# Altium schematic symbol library baikal_t1.schlib: 1 symbol
Pins are listed as number, name and electrical type; pins without a type are passive.

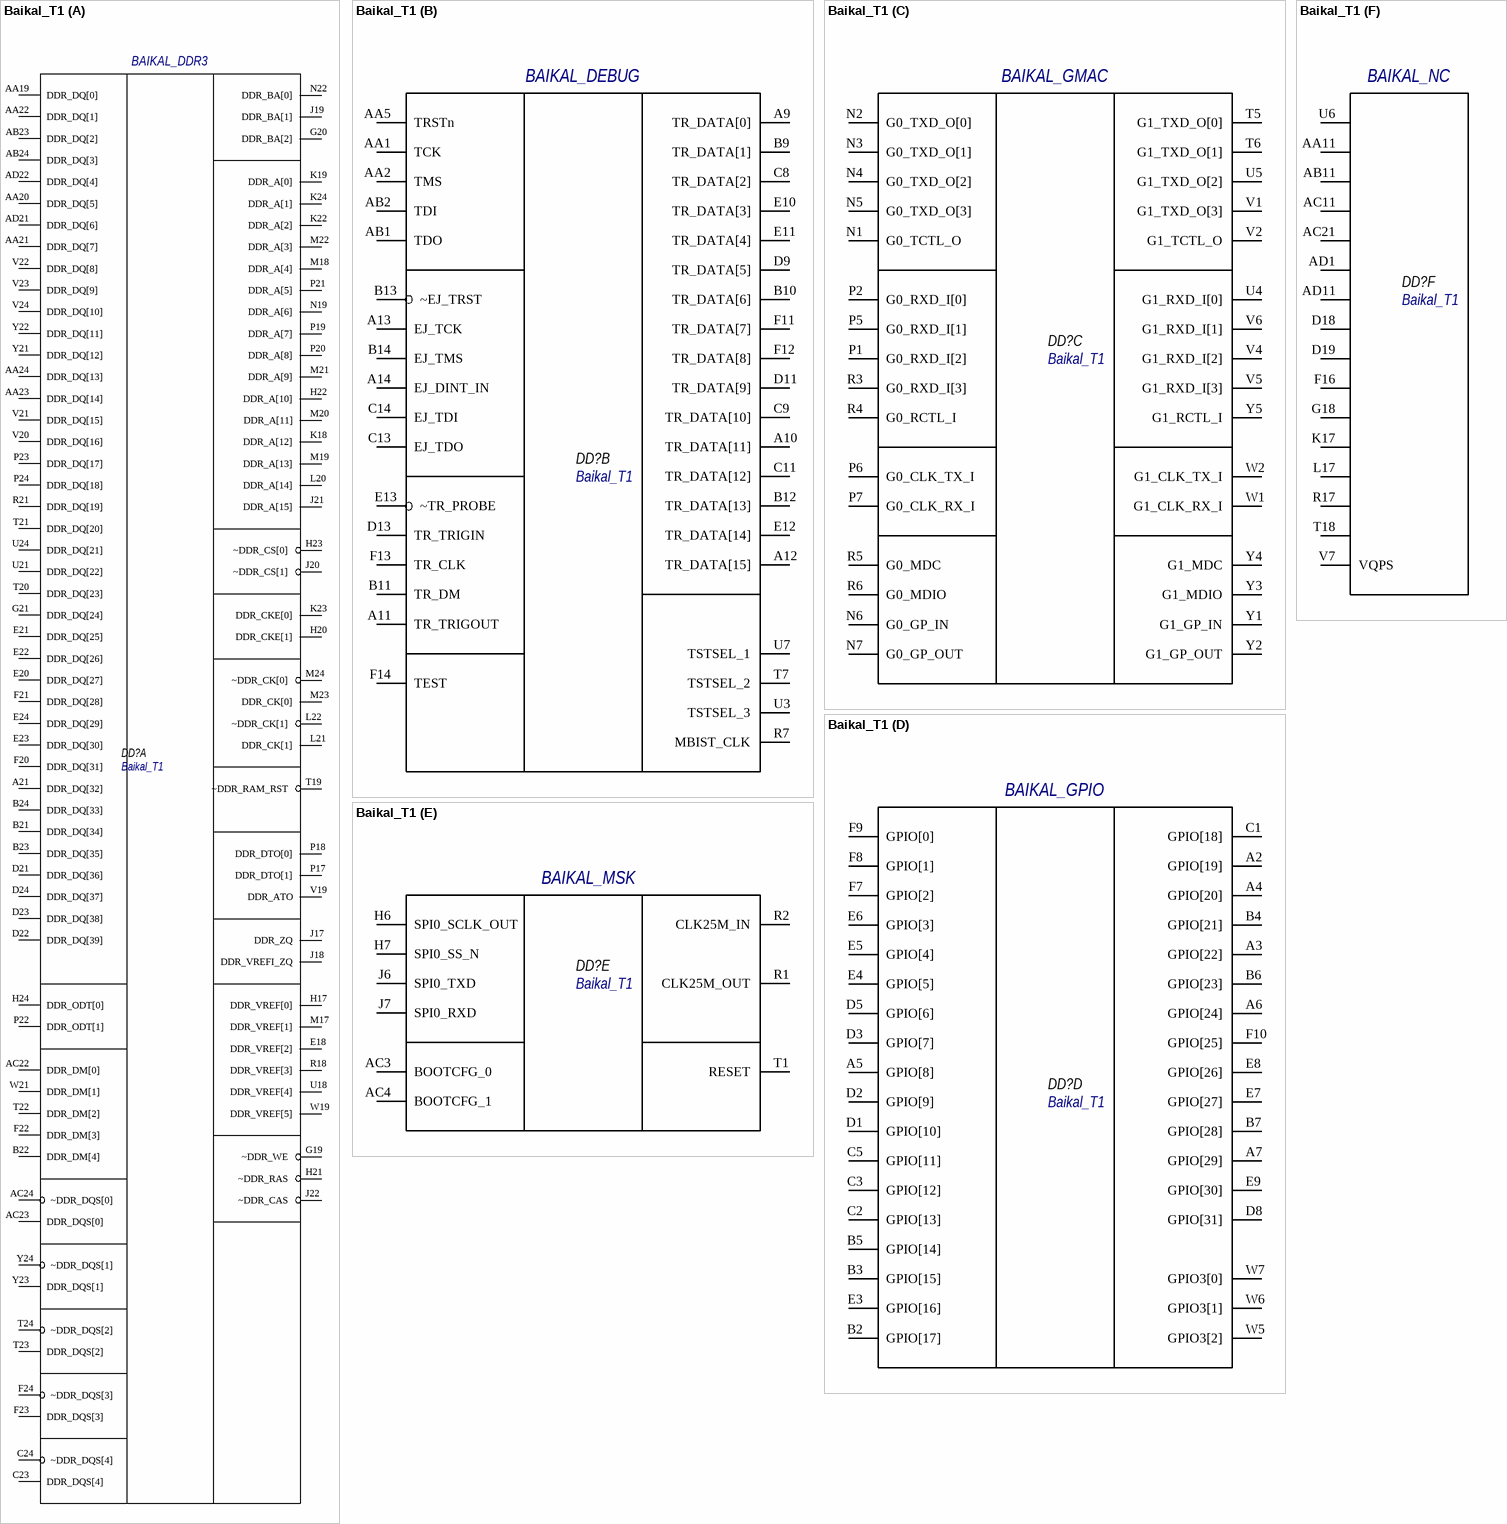
[diagram p0: symbol Baikal_T1]

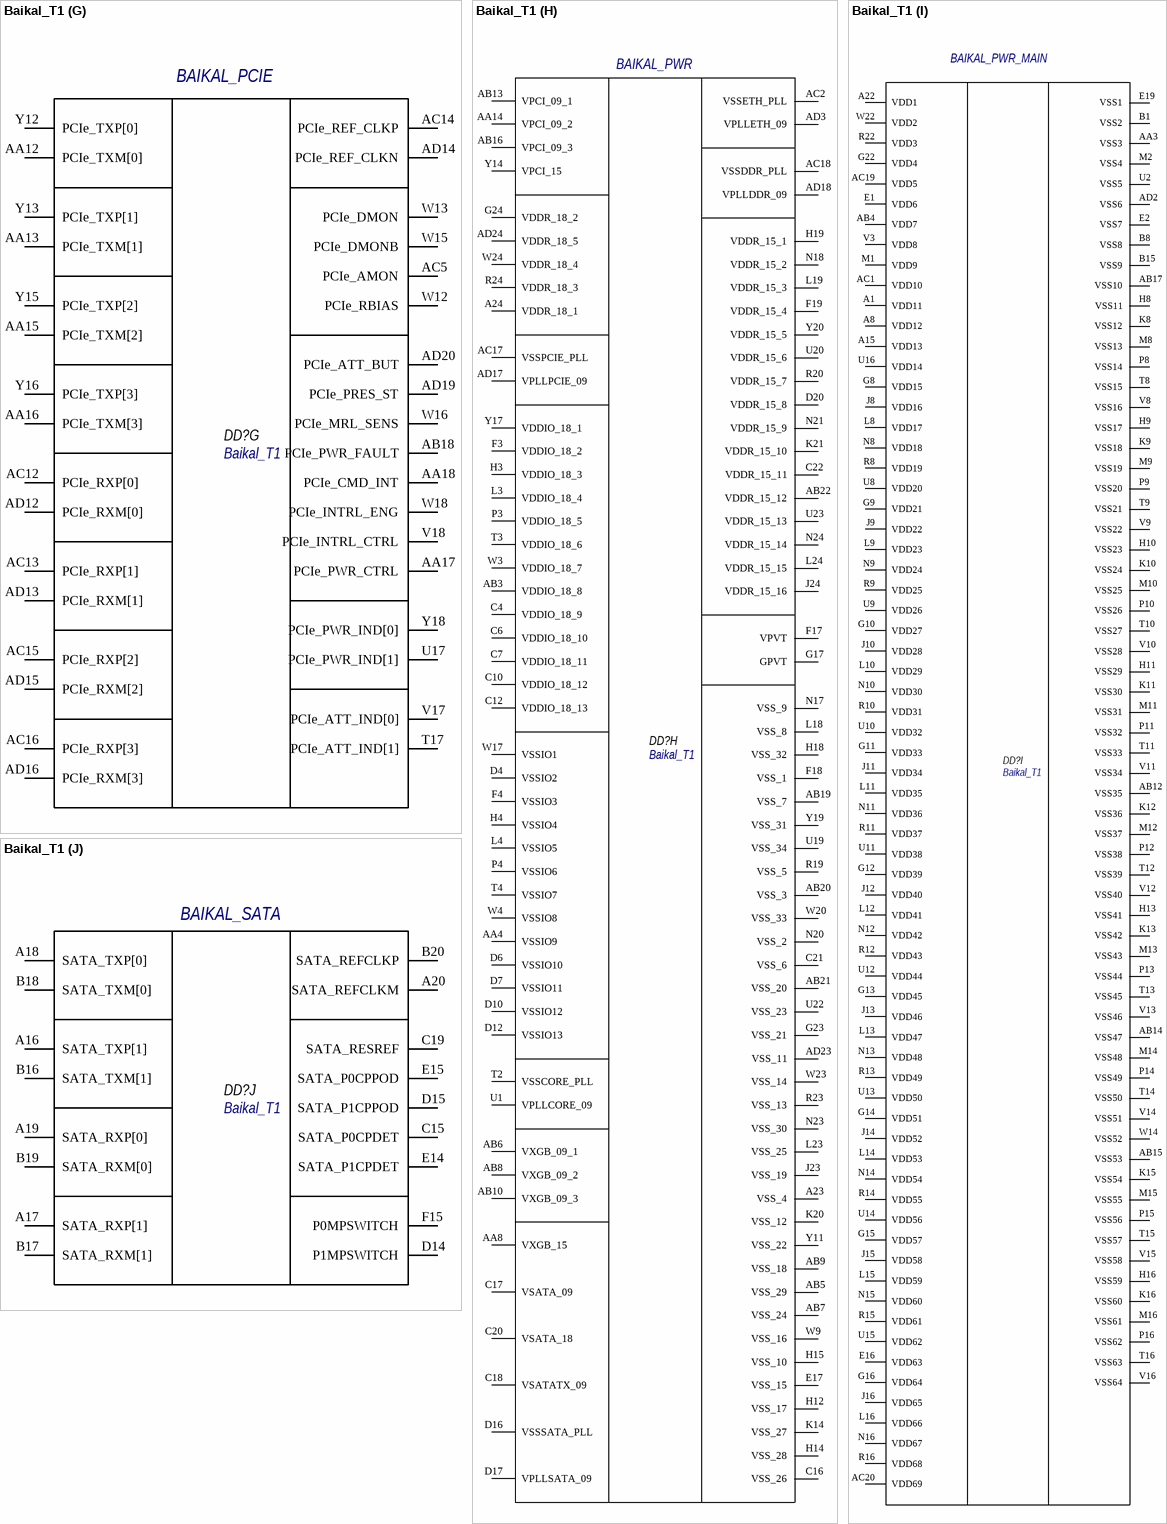
[diagram p1: symbol Baikal_T1]

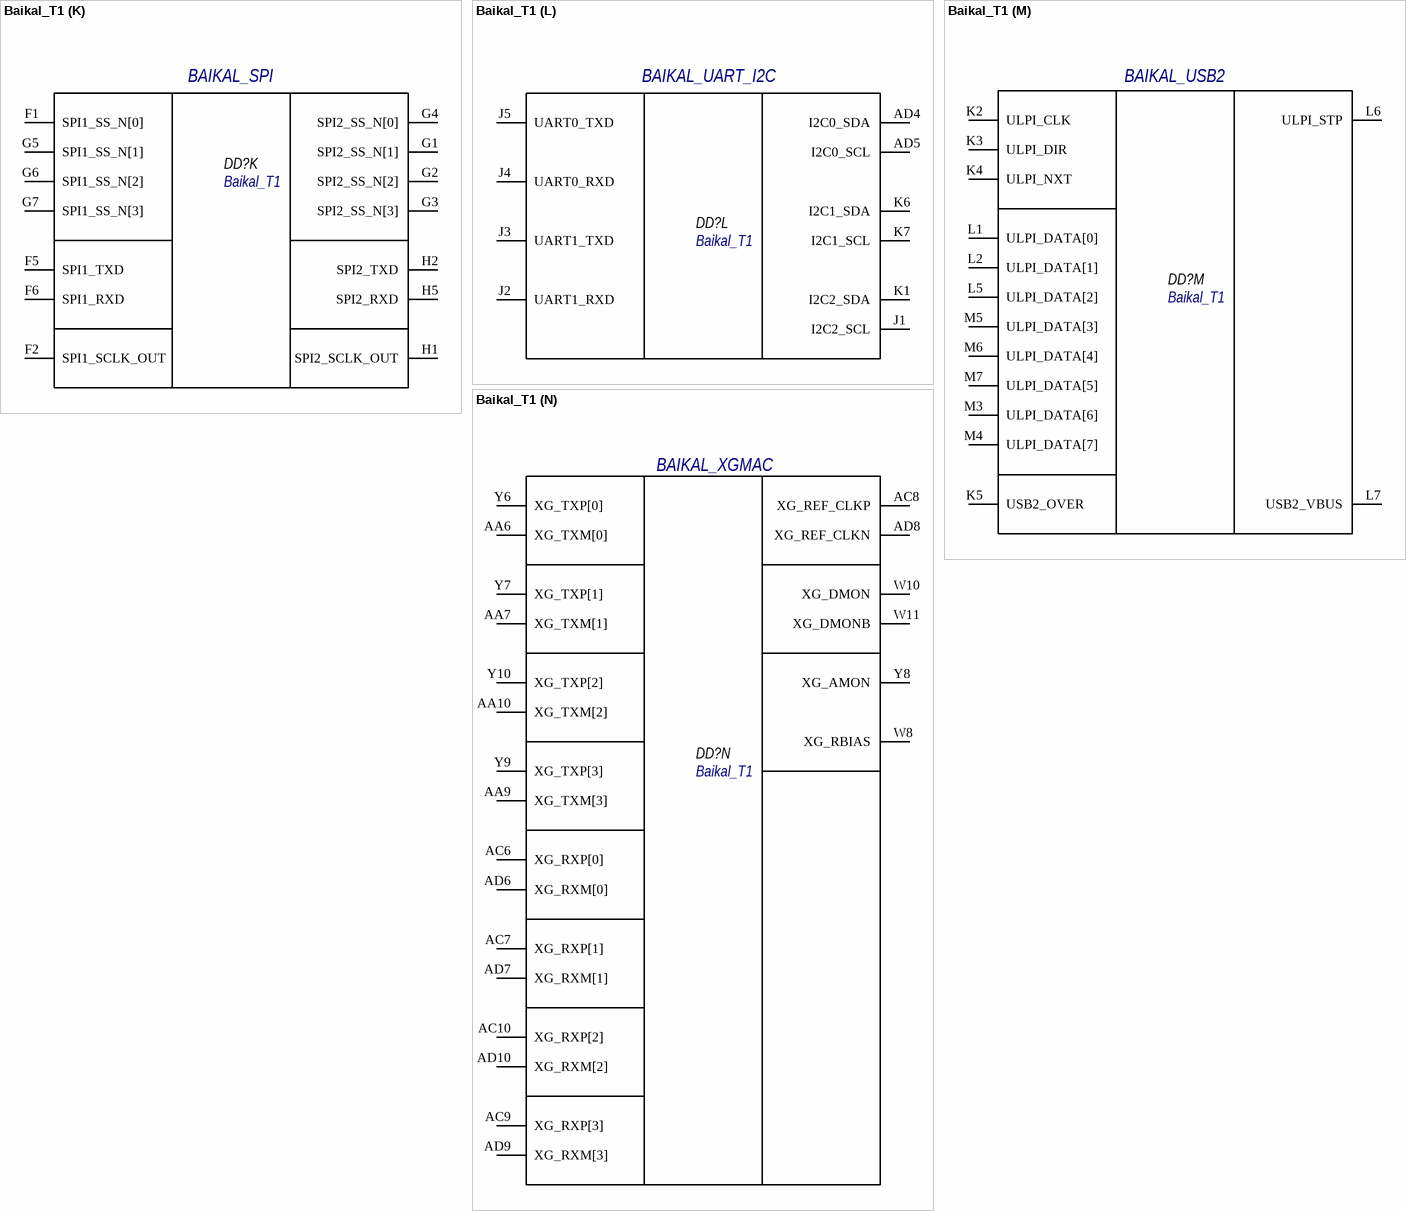
[diagram p2: symbol Baikal_T1]

## Baikal_T1
designator DD?
helpURL: https://www.baikalelectronics.ru/upload/iblock/a74/baikal_t_datasheet_rus_2.2_20170207.pdf
footprint Baikal-T1
part A pins: A21 DDR_DQ[32], AA19 DDR_DQ[0], AA20 DDR_DQ[5], AA21 DDR_DQ[7], AA22 DDR_DQ[1], AA23 DDR_DQ[14], AA24 DDR_DQ[13], AB23 DDR_DQ[2], AB24 DDR_DQ[3], AC22 DDR_DM[0], AC23 DDR_DQS[0], AC24 ~DDR_DQS[0], AD21 DDR_DQ[6], AD22 DDR_DQ[4], B21 DDR_DQ[34], B22 DDR_DM[4], B23 DDR_DQ[35], B24 DDR_DQ[33], C23 DDR_DQS[4], C24 ~DDR_DQS[4], D21 DDR_DQ[36], D22 DDR_DQ[39], D23 DDR_DQ[38], D24 DDR_DQ[37], E18 DDR_VREF[2], E20 DDR_DQ[27], E21 DDR_DQ[25], E22 DDR_DQ[26], E23 DDR_DQ[30], E24 DDR_DQ[29], F20 DDR_DQ[31], F21 DDR_DQ[28], F22 DDR_DM[3], F23 DDR_DQS[3], F24 ~DDR_DQS[3], G19 ~DDR_WE, G20 DDR_BA[2], G21 DDR_DQ[24], H17 DDR_VREF[0], H20 DDR_CKE[1], H21 ~DDR_RAS, H22 DDR_A[10], H23 ~DDR_CS[0], H24 DDR_ODT[0], J17 DDR_ZQ, J18 DDR_VREFI_ZQ, J19 DDR_BA[1], J20 ~DDR_CS[1], J21 DDR_A[15], J22 ~DDR_CAS, K18 DDR_A[12], K19 DDR_A[0], K22 DDR_A[2], K23 DDR_CKE[0], K24 DDR_A[1], L20 DDR_A[14], L21 DDR_CK[1], L22 ~DDR_CK[1], M17 DDR_VREF[1], M18 DDR_A[4], M19 DDR_A[13], M20 DDR_A[11], M21 DDR_A[9], M22 DDR_A[3], M23 DDR_CK[0], M24 ~DDR_CK[0], N19 DDR_A[6], N22 DDR_BA[0], P17 DDR_DTO[1], P18 DDR_DTO[0], P19 DDR_A[7], P20 DDR_A[8], P21 DDR_A[5], P22 DDR_ODT[1], P23 DDR_DQ[17], P24 DDR_DQ[18], R18 DDR_VREF[3], R21 DDR_DQ[19], T19 ~DDR_RAM_RST, T20 DDR_DQ[23], T21 DDR_DQ[20], T22 DDR_DM[2], T23 DDR_DQS[2], T24 ~DDR_DQS[2], U18 DDR_VREF[4], U21 DDR_DQ[22], U24 DDR_DQ[21], V19 DDR_ATO, V20 DDR_DQ[16], V21 DDR_DQ[15], V22 DDR_DQ[8], V23 DDR_DQ[9], V24 DDR_DQ[10], W19 DDR_VREF[5], W21 DDR_DM[1], Y21 DDR_DQ[12], Y22 DDR_DQ[11], Y23 DDR_DQS[1], Y24 ~DDR_DQS[1]
part B pins: A9 TR_DATA[0], A10 TR_DATA[11], A11 TR_TRIGOUT, A12 TR_DATA[15], A13 EJ_TCK, A14 EJ_DINT_IN, AA1 TCK, AA2 TMS, AA5 TRSTn, AB1 TDO, AB2 TDI, B9 TR_DATA[1], B10 TR_DATA[6], B11 TR_DM, B12 TR_DATA[13], B13 ~EJ_TRST, B14 EJ_TMS, C8 TR_DATA[2], C9 TR_DATA[10], C11 TR_DATA[12], C13 EJ_TDO, C14 EJ_TDI, D9 TR_DATA[5], D11 TR_DATA[9], D13 TR_TRIGIN, E10 TR_DATA[3], E11 TR_DATA[4], E12 TR_DATA[14], E13 ~TR_PROBE, F11 TR_DATA[7], F12 TR_DATA[8], F13 TR_CLK, F14 TEST, R7 MBIST_CLK, T7 TSTSEL_2, U3 TSTSEL_3, U7 TSTSEL_1
part C pins: N1 G0_TCTL_O, N2 G0_TXD_O[0], N3 G0_TXD_O[1], N4 G0_TXD_O[2], N5 G0_TXD_O[3], N6 G0_GP_IN, N7 G0_GP_OUT, P1 G0_RXD_I[2], P2 G0_RXD_I[0], P5 G0_RXD_I[1], P6 G0_CLK_TX_I, P7 G0_CLK_RX_I, R3 G0_RXD_I[3], R4 G0_RCTL_I, R5 G0_MDC, R6 G0_MDIO, T5 G1_TXD_O[0], T6 G1_TXD_O[1], U4 G1_RXD_I[0], U5 G1_TXD_O[2], V1 G1_TXD_O[3], V2 G1_TCTL_O, V4 G1_RXD_I[2], V5 G1_RXD_I[3], V6 G1_RXD_I[1], W1 G1_CLK_RX_I, W2 G1_CLK_TX_I, Y1 G1_GP_IN, Y2 G1_GP_OUT, Y3 G1_MDIO, Y4 G1_MDC, Y5 G1_RCTL_I
part D pins: A2 GPIO[19], A3 GPIO[22], A4 GPIO[20], A5 GPIO[8], A6 GPIO[24], A7 GPIO[29], B2 GPIO[17], B3 GPIO[15], B4 GPIO[21], B5 GPIO[14], B6 GPIO[23], B7 GPIO[28], C1 GPIO[18], C2 GPIO[13], C3 GPIO[12], C5 GPIO[11], D1 GPIO[10], D2 GPIO[9], D3 GPIO[7], D5 GPIO[6], D8 GPIO[31], E3 GPIO[16], E4 GPIO[5], E5 GPIO[4], E6 GPIO[3], E7 GPIO[27], E8 GPIO[26], E9 GPIO[30], F7 GPIO[2], F8 GPIO[1], F9 GPIO[0], F10 GPIO[25], W5 GPIO3[2], W6 GPIO3[1], W7 GPIO3[0]
part E pins: AC3 BOOTCFG_0, AC4 BOOTCFG_1, H6 SPI0_SCLK_OUT, H7 SPI0_SS_N, J6 SPI0_TXD, J7 SPI0_RXD, R1 CLK25M_OUT, R2 CLK25M_IN, T1 RESET
part F pins: AA11 NC0, AB11 NC1, AC11 NC2, AC21 NC3, AD1 NC4, AD11 NC5, D18 NC6, D19 NC7, F16 NC8, G18 NC9, K17 NC10, L17 NC11, R17 NC12, T18 NC13, U6 NC14, V7 VQPS
part G pins: AA12 PCIe_TXM[0], AA13 PCIe_TXM[1], AA15 PCIe_TXM[2], AA16 PCIe_TXM[3], AA17 PCIe_PWR_CTRL, AA18 PCIe_CMD_INT, AB18 PCIe_PWR_FAULT, AC5 PCIe_AMON, AC12 PCIe_RXP[0], AC13 PCIe_RXP[1], AC14 PCIe_REF_CLKP, AC15 PCIe_RXP[2], AC16 PCIe_RXP[3], AD12 PCIe_RXM[0], AD13 PCIe_RXM[1], AD14 PCIe_REF_CLKN, AD15 PCIe_RXM[2], AD16 PCIe_RXM[3], AD19 PCIe_PRES_ST, AD20 PCIe_ATT_BUT, T17 PCIe_ATT_IND[1], U17 PCIe_PWR_IND[1], V17 PCIe_ATT_IND[0], V18 PCIe_INTRL_CTRL, W12 PCIe_RBIAS, W13 PCIe_DMON, W15 PCIe_DMONB, W16 PCIe_MRL_SENS, W18 PCIe_INTRL_ENG, Y12 PCIe_TXP[0], Y13 PCIe_TXP[1], Y15 PCIe_TXP[2], Y16 PCIe_TXP[3], Y18 PCIe_PWR_IND[0]
part H pins: A23 VSS_4, A24 VDDR_18_1, AA4 VSSIO9, AA8 VXGB_15, AA14 VPCI_09_2, AB3 VDDIO_18_8, AB5 VSS_29, AB6 VXGB_09_1, AB7 VSS_24, AB8 VXGB_09_2, AB9 VSS_18, AB10 VXGB_09_3, AB13 VPCI_09_1, AB16 VPCI_09_3, AB19 VSS_7, AB20 VSS_3, AB21 VSS_20, AB22 VDDR_15_12, AC2 VSSETH_PLL, AC17 VSSPCIE_PLL, AC18 VSSDDR_PLL, AD3 VPLLETH_09, AD17 VPLLPCIE_09, AD18 VPLLDDR_09, AD23 VSS_11, AD24 VDDR_18_5, C4 VDDIO_18_9, C6 VDDIO_18_10, C7 VDDIO_18_11, C10 VDDIO_18_12, C12 VDDIO_18_13, C16 VSS_26, C17 VSATA_09, C18 VSATATX_09, C20 VSATA_18, C21 VSS_6, C22 VDDR_15_11, D4 VSSIO2, D6 VSSIO10, D7 VSSIO11, D10 VSSIO12, D12 VSSIO13, D16 VSSSATA_PLL, D17 VPLLSATA_09, D20 VDDR_15_8, E17 VSS_15, F3 VDDIO_18_2, F4 VSSIO3, F17 VPVT, F18 VSS_1, F19 VDDR_15_4, G17 GPVT, G23 VSS_21, G24 VDDR_18_2, H3 VDDIO_18_3, H4 VSSIO4, H12 VSS_17, H14 VSS_28, H15 VSS_10, H18 VSS_32, H19 VDDR_15_1, J23 VSS_19, J24 VDDR_15_16, K14 VSS_27, K20 VSS_12, K21 VDDR_15_10, L3 VDDIO_18_4, L4 VSSIO5, L18 VSS_8, L19 VDDR_15_3, L23 VSS_25, L24 VDDR_15_15, N17 VSS_9, N18 VDDR_15_2, N20 VSS_2, N21 VDDR_15_9, N23 VSS_30, N24 VDDR_15_14, P3 VDDIO_18_5, P4 VSSIO6, R19 VSS_5, R20 VDDR_15_7, R23 VSS_13, R24 VDDR_18_3, T2 VSSCORE_PLL, T3 VDDIO_18_6, T4 VSSIO7, U1 VPLLCORE_09, U19 VSS_34, U20 VDDR_15_6, U22 VSS_23, U23 VDDR_15_13, W3 VDDIO_18_7, W4 VSSIO8, W9 VSS_16, W17 VSSIO1, W20 VSS_33, W23 VSS_14, W24 VDDR_18_4, Y11 VSS_22, Y14 VPCI_15, Y17 VDDIO_18_1, Y19 VSS_31, Y20 VDDR_15_5
part I pins: A1 VDD11, A8 VDD12, A15 VDD13, A22 VDD1, AA3 VSS3, AB4 VDD7, AB12 VSS35, AB14 VSS47, AB15 VSS53, AB17 VSS10, AC1 VDD10, AC19 VDD5, AC20 VDD69, AD2 VSS6, B1 VSS2, B8 VSS8, B15 VSS9, E1 VDD6, E2 VSS7, E16 VDD63, E19 VSS1, G8 VDD15, G9 VDD21, G10 VDD27, G11 VDD33, G12 VDD39, G13 VDD45, G14 VDD51, G15 VDD57, G16 VDD64, G22 VDD4, H8 VSS11, H9 VSS17, H10 VSS23, H11 VSS29, H13 VSS41, H16 VSS59, J8 VDD16, J9 VDD22, J10 VDD28, J11 VDD34, J12 VDD40, J13 VDD46, J14 VDD52, J15 VDD58, J16 VDD65, K8 VSS12, K9 VSS18, K10 VSS24, K11 VSS30, K12 VSS36, K13 VSS42, K15 VSS54, K16 VSS60, L8 VDD17, L9 VDD23, L10 VDD29, L11 VDD35, L12 VDD41, L13 VDD47, L14 VDD53, L15 VDD59, L16 VDD66, M1 VDD9, M2 VSS4, M8 VSS13, M9 VSS19, M10 VSS25, M11 VSS31, M12 VSS37, M13 VSS43, M14 VSS48, M15 VSS55, M16 VSS61, N8 VDD18, N9 VDD24, N10 VDD30, N11 VDD36, N12 VDD42, N13 VDD48, N14 VDD54, N15 VDD60, N16 VDD67, P8 VSS14, P9 VSS20, P10 VSS26, P11 VSS32, P12 VSS38, P13 VSS44, P14 VSS49, P15 VSS56, P16 VSS62, R8 VDD19, R9 VDD25, R10 VDD31, R11 VDD37, R12 VDD43, R13 VDD49, R14 VDD55, R15 VDD61, R16 VDD68, R22 VDD3, T8 VSS15, T9 VSS21, T10 VSS27, T11 VSS33, T12 VSS39, T13 VSS45, T14 VSS50, T15 VSS57, T16 VSS63, U2 VSS5, U8 VDD20, U9 VDD26, U10 VDD32, U11 VDD38, U12 VDD44, U13 VDD50, U14 VDD56, U15 VDD62, U16 VDD14, V3 VDD8, V8 VSS16, V9 VSS22, V10 VSS28, V11 VSS34, V12 VSS40, V13 VSS46, V14 VSS51, V15 VSS58, V16 VSS64, W14 VSS52, W22 VDD2
part J pins: A16 SATA_TXP[1], A17 SATA_RXP[1], A18 SATA_TXP[0], A19 SATA_RXP[0], A20 SATA_REFCLKM, B16 SATA_TXM[1], B17 SATA_RXM[1], B18 SATA_TXM[0], B19 SATA_RXM[0], B20 SATA_REFCLKP, C15 SATA_P0CPDET, C19 SATA_RESREF, D14 P1MPSWITCH, D15 SATA_P1CPPOD, E14 SATA_P1CPDET, E15 SATA_P0CPPOD, F15 P0MPSWITCH
part K pins: F1 SPI1_SS_N[0], F2 SPI1_SCLK_OUT, F5 SPI1_TXD, F6 SPI1_RXD, G1 SPI2_SS_N[1], G2 SPI2_SS_N[2], G3 SPI2_SS_N[3], G4 SPI2_SS_N[0], G5 SPI1_SS_N[1], G6 SPI1_SS_N[2], G7 SPI1_SS_N[3], H1 SPI2_SCLK_OUT, H2 SPI2_TXD, H5 SPI2_RXD
part L pins: AD4 I2C0_SDA, AD5 I2C0_SCL, J1 I2C2_SCL, J2 UART1_RXD, J3 UART1_TXD, J4 UART0_RXD, J5 UART0_TXD, K1 I2C2_SDA, K6 I2C1_SDA, K7 I2C1_SCL
part M pins: K2 ULPI_CLK, K3 ULPI_DIR, K4 ULPI_NXT, K5 USB2_OVER, L1 ULPI_DATA[0], L2 ULPI_DATA[1], L5 ULPI_DATA[2], L6 ULPI_STP, L7 USB2_VBUS, M3 ULPI_DATA[6], M4 ULPI_DATA[7], M5 ULPI_DATA[3], M6 ULPI_DATA[4], M7 ULPI_DATA[5]
part N pins: AA6 XG_TXM[0], AA7 XG_TXM[1], AA9 XG_TXM[3], AA10 XG_TXM[2], AC6 XG_RXP[0], AC7 XG_RXP[1], AC8 XG_REF_CLKP, AC9 XG_RXP[3], AC10 XG_RXP[2], AD6 XG_RXM[0], AD7 XG_RXM[1], AD8 XG_REF_CLKN, AD9 XG_RXM[3], AD10 XG_RXM[2], W8 XG_RBIAS, W10 XG_DMON, W11 XG_DMONB, Y6 XG_TXP[0], Y7 XG_TXP[1], Y8 XG_AMON, Y9 XG_TXP[3], Y10 XG_TXP[2]
part A text: BAIKAL_DDR3
part B text: BAIKAL_DEBUG
part C text: BAIKAL_GMAC
part D text: BAIKAL_GPIO
part E text: BAIKAL_MSK
part F text: BAIKAL_NC
part G text: BAIKAL_PCIE
part H text: BAIKAL_PWR
part I text: BAIKAL_PWR_MAIN
part J text: BAIKAL_SATA
part K text: BAIKAL_SPI
part L text: BAIKAL_UART_I2C
part M text: BAIKAL_USB2
part N text: BAIKAL_XGMAC